# Altium schematic symbol library I2C_Shield.SchLib: 21 symbols
Pins are listed as number, name and electrical type; pins without a type are passive.

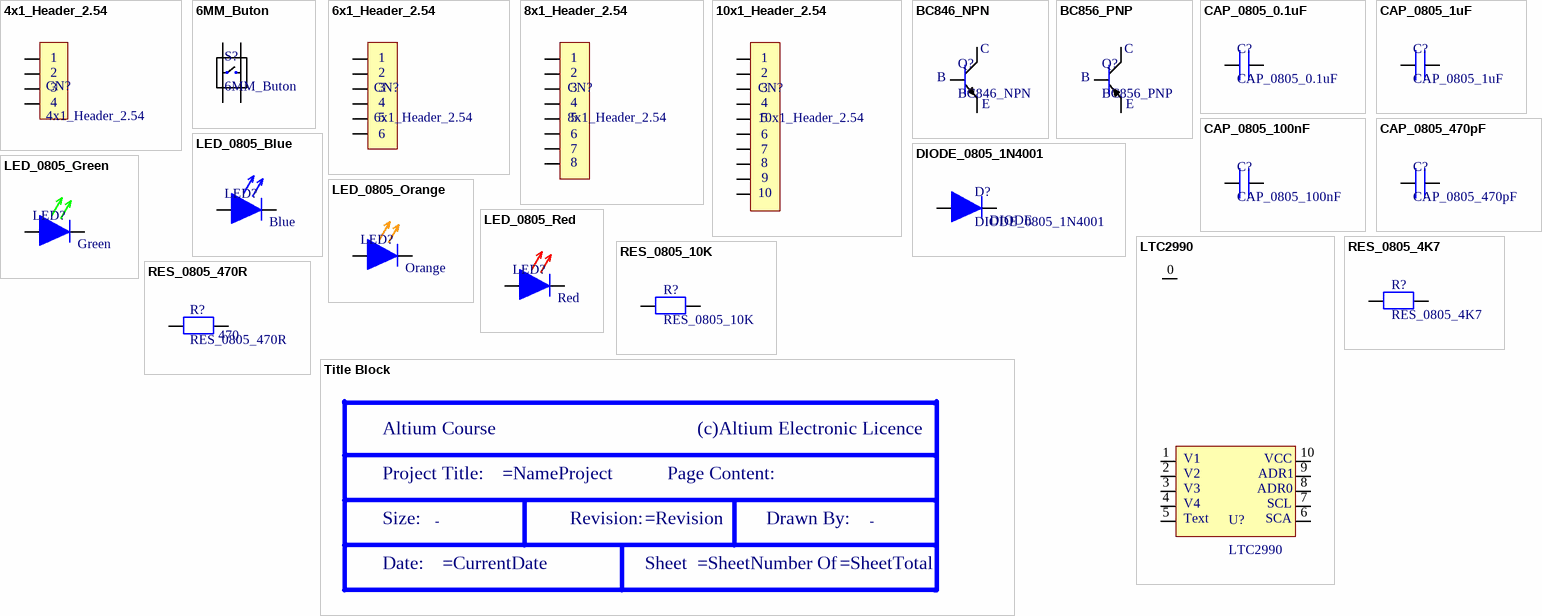
[diagram p0: symbols 4x1_Header_2.54 to Title Block]

## 4x1_Header_2.54
designator CN?
OLED SCREEN HEADER; Manufacturer: https://www.ozdisan.com/p/disi-headerlar-294/connfly-ds1023-1x4sf11-454409?srsltid=AfmBOoq8A8ibqNV5gJOb4Q5V-kVBNNSoQ6d5VbQvHKFdoBYv37HZCifS; Package Size: 4x1
footprint 4x1_2.54MM_HEADER
pins: 01, 02, 03, 04
text: 1; 2; 3; 4

## 6MM_Buton
designator S?
SWITCH TACT 12.00x12.00 6.00mm; Current: 50mA; Voltage Rating: 12V; Manufacturer: https://www.ozdisan.com/p/tact-sivicler-485/connfly-ds1042-2-17-kkrx-160-10-501388?catSequenceId=485; Package Size: 6mm x 6mm
footprint 6MM_TACTILE_SWITCH
pins: 1 2, 2 3, 3 0, 4 1

## 6x1_Header_2.54
designator CN?
Arduino Boards Connector; Manufacturer: https://www.e-komponent.com/arduino-boards-or-other-mcu-boards-connector?srsltid=AfmBOorUMZQOrsv8Wt15kW0DGxl8hyw4h0X0K5JN5829Gr0faX_RqlTh; Package Size: 6x1
footprint 6x1_2.54MM_HEADER
pins: 01, 02, 03, 04, 05, 06
text: 1; 2; 3; 4; 5; 6

## 8x1_Header_2.54
designator CN?
Arduino Boards Connector; Manufacturer: https://www.e-komponent.com/arduino-boards-or-other-mcu-boards-connector?srsltid=AfmBOorUMZQOrsv8Wt15kW0DGxl8hyw4h0X0K5JN5829Gr0faX_RqlTh; Package Size: 8x1
footprint 8x1_2.54MM_HEADER
pins: 01, 02, 03, 04, 05, 06, 07, 08
text: 1; 2; 3; 4; 5; 6; 7; 8

## 10x1_Header_2.54
designator CN?
Arduino Boards Connector; Manufacturer: https://www.e-komponent.com/arduino-boards-or-other-mcu-boards-connector?srsltid=AfmBOorUMZQOrsv8Wt15kW0DGxl8hyw4h0X0K5JN5829Gr0faX_RqlTh; Package Size: 10x1
footprint 10x1_2.54MM_HEADER
pins: 01, 02, 03, 04, 05, 06, 07, 08, 09, 10
text: 1; 2; 3; 4; 5; 6; 7; 8; 9

## BC846_NPN
designator Q?
DIS.100mA 65V NPN SOT23 GEN. SMT; Current: 100mA; Voltage Rating: 65V; Package Size: SOT23; Manufacturer: https://www.ozdisan.com/p/discrete-transistorler-442/hottech-bc846b-ht-417239?s=BC846B-HT
pins: 0, 1, 3
text: C; B; E

## BC856_PNP
designator Q?
DIS.100mA 65V PNP SOT23 GEN. SMT; Current: 100mA; Voltage Rating: 65V; Package Size: SOT23; Manufacturer: https://www.ozdisan.com/p/discrete-transistorler-442/nexperia-bc856b-215-449426?catSequenceId=442
pins: 0, 1, 3
text: C; B; E

## CAP_0805_0.1uF
designator C?
0805 0.1uF 16VDC 10% X7R; Tolerance: %10; Voltage Rating: 16 V; Dielectric: X7R; Manufacturer: https://www.ozdisan.com/p/smt-smd-ve-mlcc-kapasitorler-184/yageo-ac0805krx7r7bb104-750224?catSequenceId=184; Package Size: 0805
footprint CAP_0805 (Chip Capacitor, 2-Leads, Body 2,00x1,25mm, IPC Medium Density)
pins: 1, 2

## CAP_0805_1uF
designator C?
0805 1uF 16VDC 10%; Tolerance: %10; Voltage Rating: 16V; Dielectric: X7R; Manufacturer: https://www.ozdisan.com/p/smt-smd-ve-mlcc-kapasitorler-184/yageo-cc0805kkx7r7bb105-504015?catSequenceId=184; Package Size: 0805
footprint CAP_0805 (Chip Capacitor, 2-Leads, Body 2,00x1,25mm, IPC Medium Density)
pins: 1, 2

## CAP_0805_100nF
designator C?
0805 100nF 16VDC 10% X7R; Tolerance: %10; Voltage Rating: 16 V; Dielectric: X7R; Manufacturer: https://www.ozdisan.com/p/smt-smd-ve-mlcc-kapasitorler-184/yageo-ac0805krx7r7bb104-750224?catSequenceId=184; Package Size: 0805
footprint CAP_0805 (Chip Capacitor, 2-Leads, Body 2,00x1,25mm, IPC Medium Density)
pins: 1, 2

## CAP_0805_470pF
designator C?
0805 470pF 16VDC 10% X7R; Tolerance: %10; Voltage Rating: 16 V; Dielectric: X7R; Manufacturer: https://www.ozdisan.com/p/smt-smd-ve-mlcc-kapasitorler-184/yageo-ac0805krx7r7bb104-750224?catSequenceId=184; Package Size: 0805
footprint CAP_0805 (Chip Capacitor, 2-Leads, Body 2,00x1,25mm, IPC Medium Density)
pins: 1, 2

## DIODE_0805_1N4001
designator D?
Single 1A 50V THT DO41; Manufacturer: https://www.ozdisan.com/p/dogrultucu-diyotlar-389/dc-corp-1n4001-dc-704532?s=1N4001-DC; Package Size: D041; Voltage Rating: 50V; Current: 1A
pins: 0, 1
text: DIODE

## LED_0805_Blue
designator LED?, comment DIODE_0805_Blue  (value not drawn)
LED SMD 0805 BLUE 160-210mcd; Voltage Rating: 2.6V; Current: 20mA; Manufacturer: https://www.ozdisan.com/p/sinyal-ledler-tek-renkli-361/honglitronic-hl-psc-2012u51gc-471651; Package Size: 0805
footprint LED_0805
pins: A 0, C 1
text: Blue

## LED_0805_Green
designator LED?, comment DIODE_0805_Green  (value not drawn)
LED SMD 0805 GREEN160-210mcd; Voltage Rating: 2.6V; Current: 20mA; Manufacturer: https://www.ozdisan.com/p/sinyal-ledler-tek-renkli-361/honglitronic-hl-psc-2012u51gc-471651; Package Size: 0805
footprint LED_0805
pins: A 0, C 1
text: Green

## LED_0805_Orange
designator LED?, comment DIODE_0805_Orange  (value not drawn)
LED SMD 0805 ORANGE 160-210mcd; Voltage Rating: 2.6V; Current: 20mA; Manufacturer: https://www.ozdisan.com/p/sinyal-ledler-tek-renkli-361/honglitronic-hl-psc-2012u51gc-471651; Package Size: 0805
footprint LED_0805
pins: A 0, C 1
text: Orange

## LED_0805_Red
designator LED?, comment DIODE_0805_Red  (value not drawn)
LED SMD 0805 RED 160-210mcd; Voltage Rating: 2.6V; Current: 20mA; Manufacturer: https://www.ozdisan.com/p/sinyal-ledler-tek-renkli-361/honglitronic-hl-psc-2012u51gc-471651; Package Size: 0805
footprint LED_0805
pins: A 0, C 1
text: Red

## LTC2990
designator U?
Quad I2C Voltage, Current / and Temperature Monitor; Manufacturer: https://uk.farnell.com/analog-devices/ltc2990cms-pbf/vol-current-temp-monitor-msop/dp/4028371; Package Size: MSOP-10
pins: 0, 1, 2, 3, 4, 5, 6, 7, 8, 9, 10
text: V1; VCC; V2; ADR1; V3; ADR0; V4; SCL; Text; SCA

## RES_0805_4K7
designator R?
0805 4K7 Ohms 5%; Voltage Rating: 150V; Tolerance: %5; Manufacturer: https://www.ozdisan.com/p/smt-smd-ve-cip-direncler-194/yageo-rc0805jr-0710kl-515420?catSequenceId=194; Package Size: 0805
footprint RES_0805 (Chip Resistor, 2-Leads, Body 2,00x1,25mm, IPC Medium Density)
pins: 1, 2

## RES_0805_10K
designator R?
0805 10K Ohms 5%; Voltage Rating: 150V; Tolerance: %5; Manufacturer: https://www.ozdisan.com/p/smt-smd-ve-cip-direncler-194/yageo-rc0805jr-0710kl-515420?catSequenceId=194; Package Size: 0805
footprint RES_0805 (Chip Resistor, 2-Leads, Body 2,00x1,25mm, IPC Medium Density)
pins: 1, 2

## RES_0805_470R
designator R?
0805 470 Ohms 5%; Tolerance: %5; Voltage Rating: 150V; Manufacturer: https://www.ozdisan.com/p/smt-smd-ve-cip-direncler-194/yageo-rc0805jr-07470rl-504397?catSequenceId=194; Package Size: 0805
footprint RES_0805 (Chip Resistor, 2-Leads, Body 2,00x1,25mm, IPC Medium Density)
pins: 1, 2
text: 470

## Title Block
designator *  (value not drawn)  (graphical)
Size: -; Drawn By: -
text: Altium Course; (c)Altium Electronic Licence; Project Title:; Page Content:; Size:; Revision:; Drawn By:; Date:; Sheet; Of